# Altium footprint library EEG_PcbLib.PcbLib: 129 footprints (part 3 of 9)
Each footprint in its own frame and in the unit in brackets; x right, y up, seen from the top. Pads: shape width x height; smd on the part's side, far side on the other; paste and mask are expansions set on the pad; w line width, h text height; cw(c..) or ccw(c..) is an arc to the next point about the centre after c.
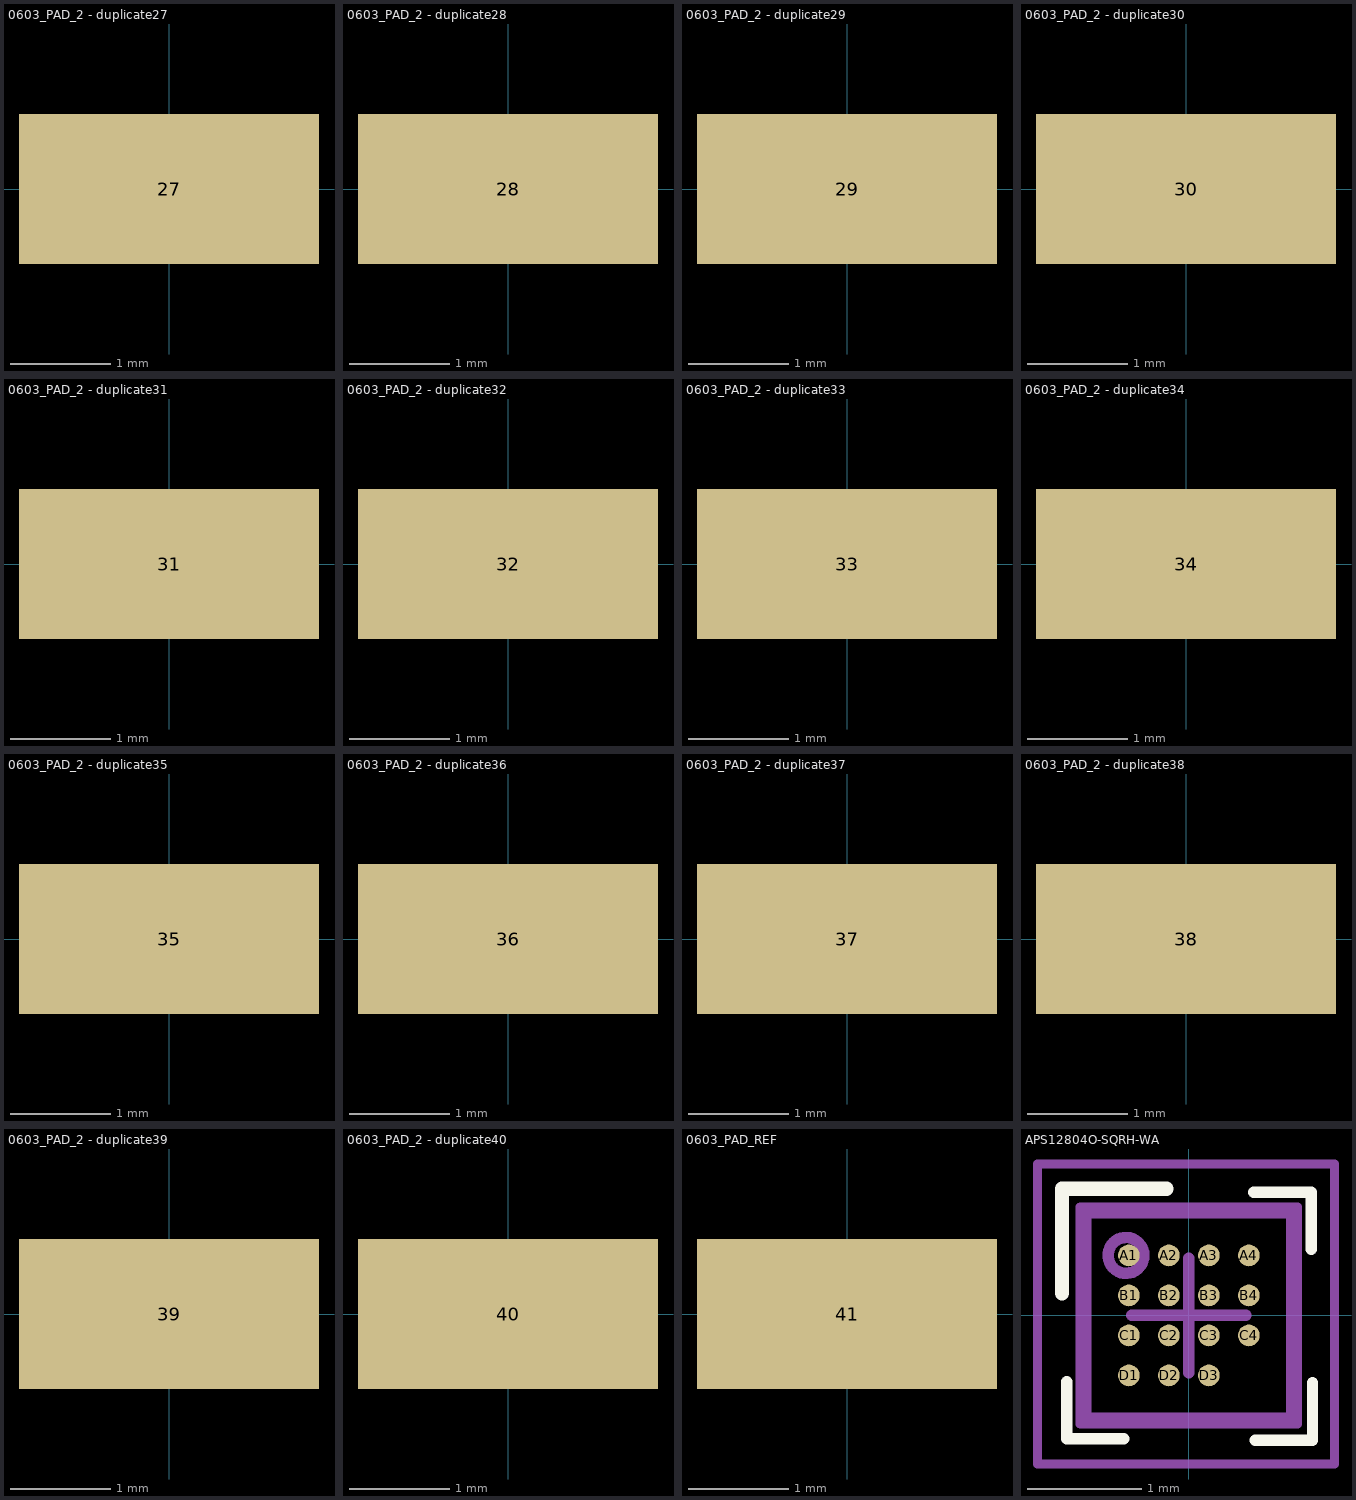
[diagram p2: the footprints below, top view; thin cyan lines are the x and y axes]

## 0603_PAD_2 - duplicate27 [mm]
pads (1):
  rect 3x1.5 smd: 27(0,0)

## 0603_PAD_2 - duplicate28 [mm]
pads (1):
  rect 3x1.5 smd: 28(0,0)

## 0603_PAD_2 - duplicate29 [mm]
pads (1):
  rect 3x1.5 smd: 29(0,0)

## 0603_PAD_2 - duplicate30 [mm]
pads (1):
  rect 3x1.5 smd: 30(0,0)

## 0603_PAD_2 - duplicate31 [mm]
pads (1):
  rect 3x1.5 smd: 31(0,0)

## 0603_PAD_2 - duplicate32 [mm]
pads (1):
  rect 3x1.5 smd: 32(0,0)

## 0603_PAD_2 - duplicate33 [mm]
pads (1):
  rect 3x1.5 smd: 33(0,0)

## 0603_PAD_2 - duplicate34 [mm]
pads (1):
  rect 3x1.5 smd: 34(0,0)

## 0603_PAD_2 - duplicate35 [mm]
pads (1):
  rect 3x1.5 smd: 35(0,0)

## 0603_PAD_2 - duplicate36 [mm]
pads (1):
  rect 3x1.5 smd: 36(0,0)

## 0603_PAD_2 - duplicate37 [mm]
pads (1):
  rect 3x1.5 smd: 37(0,0)

## 0603_PAD_2 - duplicate38 [mm]
pads (1):
  rect 3x1.5 smd: 38(0,0)

## 0603_PAD_2 - duplicate39 [mm]
pads (1):
  rect 3x1.5 smd: 39(0,0)

## 0603_PAD_2 - duplicate40 [mm]
pads (1):
  rect 3x1.5 smd: 40(0,0)

## 0603_PAD_REF [mm]
pads (1):
  rect 3x1.5 smd: 41(0,0)

## APS12804O-SQRH-WA [mm]
pads (15):
  round 0.19 smd paste+0 mask+0: A1(-0.525,0.525) A2(-0.175,0.525) A3(0.175,0.525) A4(0.525,0.525) B1(-0.525,0.175) B2(-0.175,0.175) B3(0.175,0.175) B4(0.525,0.175) C1(-0.525,-0.175) C2(-0.175,-0.175) C3(0.175,-0.175) C4(0.525,-0.175) D1(-0.525,-0.525) D2(-0.175,-0.525) D3(0.175,-0.525)
Top Overlay:
  lines w0.1: -1.069,-0.579 -1.069,-1.079 -0.569,-1.079 ; 0.569,1.079 1.069,1.079 1.069,0.579 ; 0.582,-1.091 1.082,-1.091 1.082,-0.591
  lines w0.125: -1.111,0.193 -1.111,1.107 -0.196,1.107
Top Assembly:
  circle w0.1: c-0.55,0.525 r0.157
  lines w0.08: -0.95,-0.95 0.95,-0.95 0.95,0.95 -0.95,0.95 -0.95,-0.95
Top Courtyard:
  lines w0.08: -1.325,-1.3 -1.325,1.325 1.275,1.325 1.275,-1.3 -1.325,-1.3
Top Component Outline:
  lines w0.1: -0.9,-0.9 0.9,-0.9 0.9,0.9 -0.9,0.9 -0.9,-0.9
Top Component Center:
  lines w0.1: -0.5,0 0.5,0 ; 0,-0.5 0,0.5